# EAGLE library part BMS_CURRENT_SENSOR (library EL_POTENCIA_LIBRERIA_VES2018)
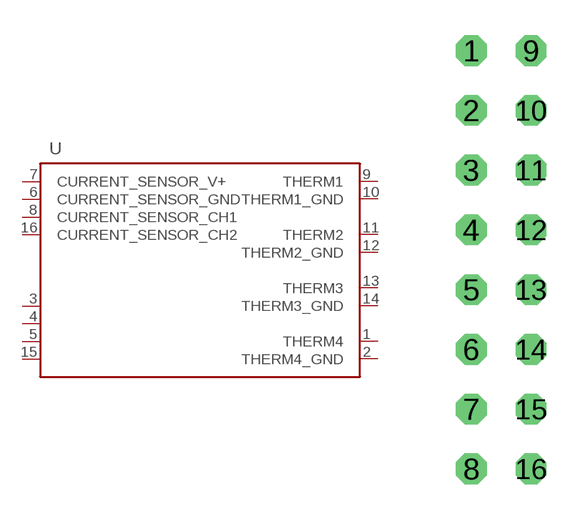
[diagram p9: symbol with the pads of BMS_CURRENT_SENSOR; footprint BMS_CURRENT_SENSOR]

Designator prefix -

## BMS_CURRENT_SENSOR  [BMS_CURRENT_SENSOR]
1  THERM4
2  THERM4_GND
3  3
4  4
5  5
6  CURRENT_SENSOR_GND
7  CURRENT_SENSOR_V+
8  CURRENT_SENSOR_CH1
9  THERM1
10  THERM1_GND
11  THERM2
12  THERM2_GND
13  THERM3
14  THERM3_GND
15  15
16  CURRENT_SENSOR_CH2

## Footprint BMS_CURRENT_SENSOR (pad centres in mm)
drill 0.8 octagon: 1 -1.27,8.89; 2 -1.27,6.35; 3 -1.27,3.81; 4 -1.27,1.27; 5 -1.27,-1.27; 6 -1.27,-3.81; 7 -1.27,-6.35; 8 -1.27,-8.89; 9 1.27,8.89; 10 1.27,6.35; 11 1.27,3.81; 12 1.27,1.27; 13 1.27,-1.27; 14 1.27,-3.81; 15 1.27,-6.35; 16 1.27,-8.89